# Altium schematic symbol library BUCK_CONV.SCHLIB: 25 symbols
Pins are listed as number, name and electrical type; pins without a type are passive.

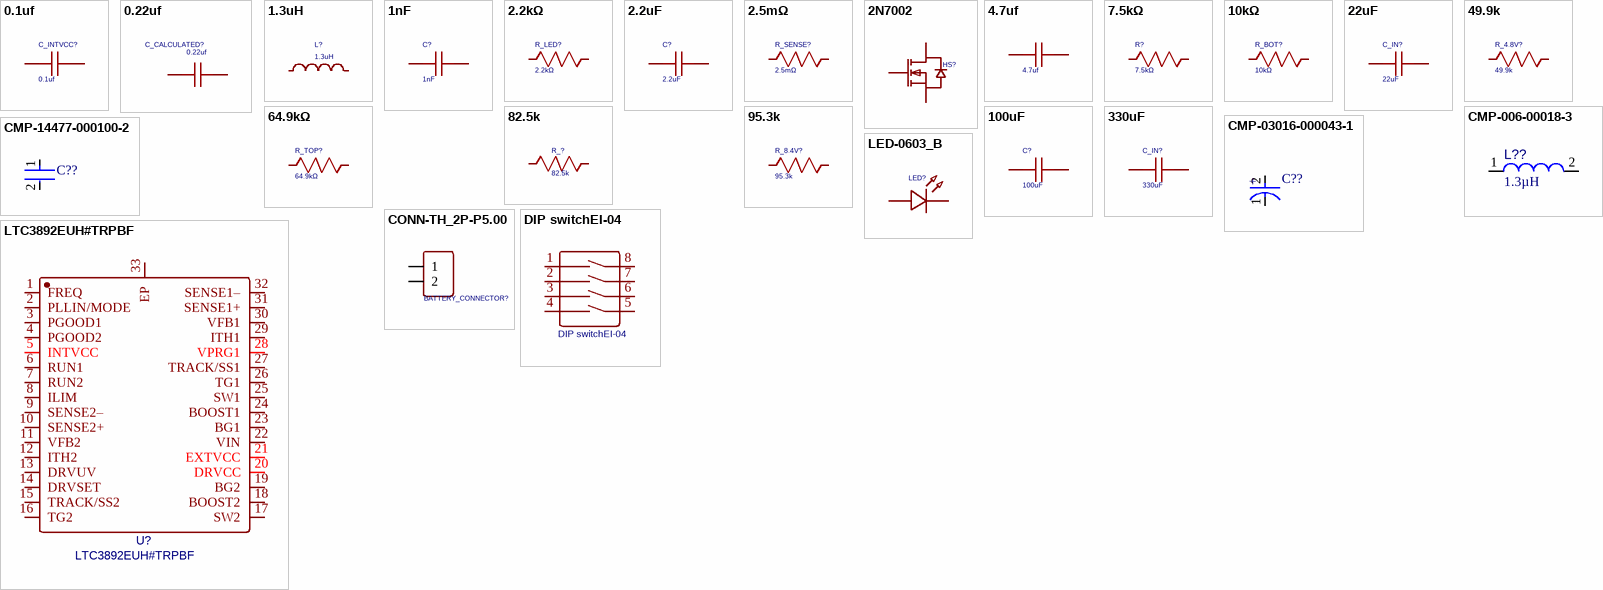
[diagram p0: symbols 0.1uf to LTC3892EUH#TRPBF]

## 0.1uf
designator C_INTVCC?
nameAlias: Value(F); Contributor: LCEDA_Lib; Package Display: No; spicePre: C; spiceSymbolName: C_0603_US
footprint C0603
pins: 1, 2

## 0.22uf
designator C_CALCULATED?
nameAlias: Value(F); Contributor: LCEDA_Lib; spicePre: C; spiceSymbolName: C_0603_US
footprint C0603
pins: 1, 2

## 1.3uH
designator L?
nameAlias: Value(H); Contributor: LCEDA_Lib; spicePre: L; spiceSymbolName: L0603_US
footprint L0603
pins: 1, 2

## 1nF
designator C?
nameAlias: Value(F); Contributor: LCEDA_Lib; spicePre: C; spiceSymbolName: C_0603_US
footprint C0603
pins: 1, 2

## 2.2kΩ
designator R_LED?
nameAlias: Value(Ω); Contributor: LCEDA_Lib; Package Display: No; spicePre: R; spiceSymbolName: R_0603_US
footprint R0603
pins: 1, 2

## 2.2uF
designator C?
nameAlias: Value(F); Contributor: LCEDA_Lib; spicePre: C; spiceSymbolName: C_0603_US
footprint C0603
pins: 1, 2

## 2.5mΩ
designator R_SENSE?
nameAlias: Value(Ω); Contributor: LCEDA_Lib; spicePre: R; spiceSymbolName: R_0603_US
footprint R0603
pins: 1, 2

## 2N7002
designator HS?  (value not drawn)
Manufacturer: Nexperia; Manufacturer Part: 2N7002,215; Paste Type: expand; Contributor: LCEDA_Lib; Package Display: No; Supplier: LCSC; image: //image.lceda.cn/szlcsc/C65189.jpg; Supplier Part: C65189; spicePre: Q; spiceSymbolName: 2N7002
footprint SOT-23_L2.9-W1.3-P0.95-LS2.4-BR
pins: 1 G, 2 S, 3 D

## 4.7uf
designator C_DRVCC?
nameAlias: Value(F); Contributor: LCEDA_Lib; Package Display: No; spicePre: C; spiceSymbolName: C_0603_US
footprint C0603
pins: 1, 2

## 7.5kΩ
designator R?
nameAlias: Value(Ω); Contributor: LCEDA_Lib; spicePre: R; spiceSymbolName: R_0603_US
footprint R0603
pins: 1, 2

## 10kΩ
designator R_BOT?
nameAlias: Value(Ω); Contributor: LCEDA_Lib; Package Display: No; spicePre: R; spiceSymbolName: R_0603_US
footprint R0603
pins: 1, 2

## 22uF
designator C_IN?
nameAlias: Value(F); Contributor: LCEDA_Lib; spicePre: C; spiceSymbolName: C_0603_US
footprint C0603
pins: 1, 2

## 49.9k
designator R_4.8V?
nameAlias: Value(Ω); Contributor: LCEDA_Lib; spicePre: R; spiceSymbolName: R_0603_US
footprint R0603
pins: 1, 2

## 64.9kΩ
designator R_TOP?
nameAlias: Value(Ω); Contributor: LCEDA_Lib; spicePre: R; spiceSymbolName: R_0603_US
footprint R0603
pins: 1, 2

## 82.5k
designator R_?
nameAlias: Value(Ω); Contributor: LCEDA_Lib; spicePre: R; spiceSymbolName: R_0603_US
footprint R0603
pins: 1, 2

## 95.3k
designator R_8.4V?
nameAlias: Value(Ω); Contributor: LCEDA_Lib; spicePre: R; spiceSymbolName: R_0603_US
footprint R0603
pins: 1, 2

## 100uF
designator C?
nameAlias: Value(F); Contributor: LCEDA_Lib; spicePre: C; spiceSymbolName: C_0603_US
footprint C0603
pins: 1, 2

## 330uF
designator C_IN?
nameAlias: Value(F); Contributor: LCEDA_Lib; spicePre: C; spiceSymbolName: C_0603_US
footprint C0603
pins: 1, 2

## CMP-006-00018-3
designator L??, comment value 1.3µH  (hidden comment: 74404042330)
WE-LQS SMD Power Inductor, L=1.3 µH; Manufacturer: Wurth Elektronik; Manufacturer: Wuerth Elektronik; Tolerance: 20%; ComponentLink2URL: http://katalog.we-online.de/pbs/datasheet/74404042330.pdf; ComponentLink1URL: http://www.we-online.com; ComponentLink2Description: Datasheet; Pins: 2; ComponentLink1Description: Manufacturer URL; Manufacturer Part Number: 74404042330; Component Type: Inductors
footprint WE-LQS 4018 (SMD Power Inductor, 2-Leads, Body 4.0x4.0mm)
pins: 1, 2

## CMP-03016-000043-1
designator C??, comment A768KS337M1ELAE019  (value not drawn)
CAP ALUM POLY 330UF 20% 25V SMD
footprint FP-A768KS337M1ELAE019-MFG
pins: 1 C, 2 A
text: +

## CMP-14477-000100-2
designator C??, comment TMK316BBJ226ML-T  (value not drawn)
None; Capacitance: 22uF; Voltage Rating (DC): 25V; Tolerance: 20%; Dielectric: X5R; Resistor Type: Ceramic; Length: 3.2mm; RoHS Compliant: Yes; Case Code (Metric): 3216; Halogen Free: Halogen Free; Series: M; Termination: SMD/SMT; Voltage Rating: 25V; Packaging: Tape and Reel; Case Code (Imperial): 1206; Width: 0.063inch; Height: 1.6mm; Thickness: 0.075inch; Min Operating Temperature: -55°C; Case/Package: 1206; Mount: Surface Mount; Max Operating Temperature: 85°C; Weight: 0.000571oz; Construction: Flat; Package Quantity: 2000
footprint FP-1206-L_3_2_0_3-W_1_6_0-MFG
footprint FP-1206-L_3_2_0_3-W_1_6_0-IPC_B
footprint FP-1206-L_3_2_0_3-W_1_6_0-IPC_C
footprint FP-1206-L_3_2_0_3-W_1_6_0-IPC_A
pins: 1, 2

## CONN-TH_2P-P5.00
designator BATTERY_CONNECTOR?  (value not drawn)
Contributor: LCEDA_Lib; Supplier: LCSC; spicePre: P; spiceSymbolName: CONN-TH_2P-P5.00
footprint CONN-TH_2P-P5.00
pins: 1, 2

## DIP switchEI-04
designator SW?
Manufacturer: 圜达; Manufacturer Part: 拨码开关EI-04; Supplier: LCSC; Supplier Part: C99987; JLCPCB Part Class: Extended Part; spicePre: S; spiceSymbolName: DIP switchEI-04
footprint SW-TH_DIPSWITCHEI-04
pins: 1, 2, 3, 4, 5, 6, 7, 8

## LED-0603_B
designator LED?  (value not drawn)
Manufacturer: EVERLIGHT(台湾亿光); Manufacturer Part: 19-217/BHC-ZL1M2RY/3T; Contributor: LCEDA_01; Supplier Part: C72041; Supplier: LCSC; spicePre: L; spiceSymbolName: LED-0603_B
footprint LED0603_BLUE
pins: 1, 2

## LTC3892EUH#TRPBF
designator U?
Manufacturer: ADI(亚德诺); Contributor: LCSC; Supplier: LCSC; Supplier Part: C687012; Manufacturer Part: LTC3892EUH#TRPBF; JLCPCB Part Class: Extended Part; spicePre: U; spiceSymbolName: LTC3892EUH#TRPBF
footprint QFN-32_L5.0-W5.0-P0.50-TL-EP3.5
pins: 1 FREQ, 2 PLLIN/MODE, 3 PGOOD1, 4 PGOOD2, 5 INTVCC, 6 RUN1, 7 RUN2, 8 ILIM, 9 SENSE2–, 10 SENSE2+, 11 VFB2, 12 ITH2, 13 DRVUV, 14 DRVSET, 15 TRACK/SS2, 16 TG2, 17 SW2, 18 BOOST2, 19 BG2, 20 DRVCC, 21 EXTVCC, 22 VIN, 23 BG1, 24 BOOST1, 25 SW1, 26 TG1, 27 TRACK/SS1, 28 VPRG1, 29 ITH1, 30 VFB1, 31 SENSE1+, 32 SENSE1–, 33 EP